# Altium footprint library SignalCommunications.PCBLIB: 466 footprints (part 17 of 30)
Each footprint in its own frame and in the unit in brackets; x right, y up, seen from the top. Pads: shape width x height; smd on the part's side, far side on the other; paste and mask are expansions set on the pad; w line width, h text height; cw(c..) or ccw(c..) is an arc to the next point about the centre after c.
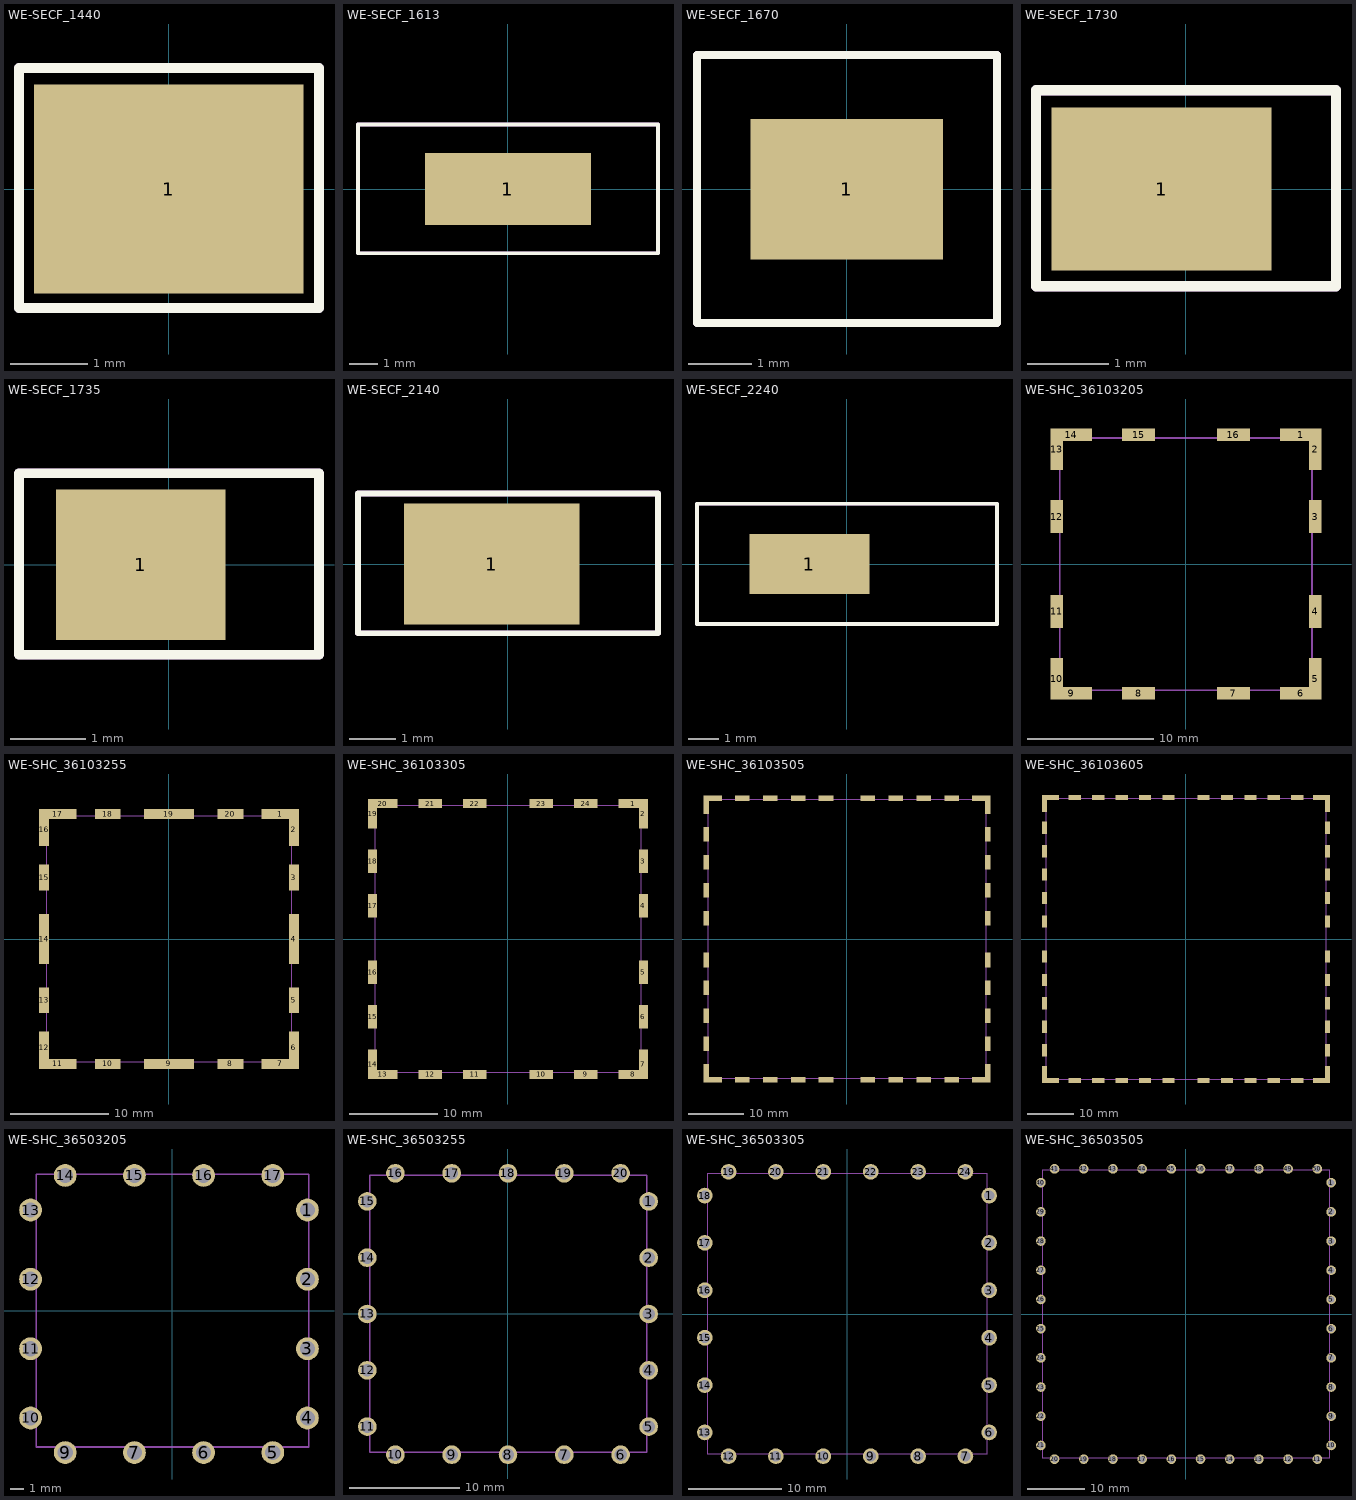
[diagram p16: the footprints below, top view; thin cyan lines are the x and y axes]

## WE-SECF_1440 [mil]
pads (1):
  rect 138x107 smd: 1(0,0)
Top Overlay:
  lines w5: -76.77,-61.02 77,-61.02 77,62 -76.77,62 -76.77,-61.02
Mechanical 16:
  lines w5: -76.77,-61.02 77,-61.02 77,62 -76.77,62 -76.77,-61.02

## WE-SECF_1613 [mil]
pads (1):
  rect 229x99 smd: 1(0,0)
Top Overlay:
  lines w5: -206.69,-88.58 207,-88.58 207,89 -206.69,89 -206.69,-88.58
Mechanical 16:
  lines w5: -206.69,-88.58 207,-88.58 207,89 -206.69,89 -206.69,-88.58

## WE-SECF_1670 [mil]
pads (1):
  rect 119x87 smd: 1(0,0)
Top Overlay:
  lines w5: -92.52,-82.68 93,-82.68 93,83 -92.52,83 -92.52,-82.68
Mechanical 16:
  lines w5: -92.52,-82.68 93,-82.68 93,83 -92.52,83 -92.52,-82.68

## WE-SECF_1730 [mil]
pads (1):
  rect 107x79 smd: 1(-11.81,0)
Top Overlay:
  lines w5: -72.83,-47.24 73,-47.24 73,48 -72.83,48 -72.83,-47.24
Mechanical 16:
  lines w5: -72.83,-47.24 73,-47.24 73,48 -72.83,48 -72.83,-47.24

## WE-SECF_1735 [mil]
pads (1):
  rect 89x79 smd: 1(-14.76,0)
Top Overlay:
  lines w5: -78.74,-47.24 79,-47.24 79,48 -78.74,48 -78.74,-47.24
Mechanical 16:
  lines w5: -78.74,-47.24 79,-47.24 79,48 -78.74,48 -78.74,-47.24

## WE-SECF_2140 [mil]
pads (1):
  rect 150x103 smd: 1(-13.78,0)
Top Overlay:
  lines w5: -127.95,-59.06 128,-59.06 128,60 -127.95,60 -127.95,-59.06
Mechanical 16:
  lines w5: -127.95,-59.06 128,-59.06 128,60 -127.95,60 -127.95,-59.06

## WE-SECF_2240 [mil]
pads (1):
  rect 158x79 smd: 1(-49.21,0)
Top Overlay:
  lines w5: -196.85,-78.74 197,-78.74 197,79 -196.85,79 -196.85,-78.74
Mechanical 16:
  lines w5: -196.85,-78.74 197,-78.74 197,79 -196.85,79 -196.85,-78.74

## WE-SHC_36103205 [mil]
pads (16):
  rect 130x40 smd: 1(359,404) 6(359,-403.54) 9(-358.27,-403.54) 14(-358.27,404)
  rect 40x130 smd: 2(404,359) 5(404,-358.27) 10(-403.54,-358.27) 13(-403.54,359)
  rect 40x103 smd: 3(404,148) 4(404,-147.64) 11(-403.54,-147.64) 12(-403.54,148)
  rect 103x40 smd: 7(148,-403.54) 8(-147.64,-403.54) 15(-147.64,404) 16(148,404)
Mechanical 16:
  lines w5: -393.7,-393.7 -393.7,394 394,394 394,-393.7 -393.7,-393.7

## WE-SHC_36103255 [mil]
pads (20):
  rect 150x40 smd: 1(447,502) 7(447,-501.97) 11(-446.85,-501.97) 17(-446.85,502)
  rect 40x130 smd: 2(502,438) 6(502,-437.01) 12(-501.97,-437.01) 16(-501.97,438)
  rect 40x103 smd: 3(502,247) 5(502,-246.06) 13(-501.97,-246.06) 15(-501.97,247)
  rect 40x201 smd: 4(502,0) 14(-501.97,0)
  rect 103x40 smd: 8(247,-501.97) 10(-246.06,-501.97) 18(-246.06,502) 20(247,502)
  rect 201x40 smd: 9(0,-501.97) 19(0,502)
Mechanical 16:
  lines w5: -492.13,-492.13 -492.13,493 493,493 493,-492.13 -492.13,-492.13

## WE-SHC_36103305 [mil]
pads (24):
  rect 130x40 smd: 1(556,601) 8(556,-600.39) 13(-555.12,-600.39) 20(-555.12,601)
  rect 40x130 smd: 2(601,556) 7(601,-555.12) 14(-600.39,-555.12) 19(-600.39,556)
  rect 40x103 smd: 3(601,345) 4(601,148) 5(601,-147.64) 6(601,-344.49) 15(-600.39,-344.49) 16(-600.39,-147.64) 17(-600.39,148) 18(-600.39,345)
  rect 103x40 smd: 9(345,-600.39) 10(148,-600.39) 11(-147.64,-600.39) 12(-344.49,-600.39) 21(-344.49,601) 22(-147.64,601) 23(148,601) 24(345,601)
Mechanical 16:
  lines w5: -590.55,-590.55 -590.55,591 591,591 591,-590.55 -590.55,-590.55

## WE-SHC_36103505 [mil]
pads (40):
  rect 130x40 smd: 1(949,995) 12(949,-994.09) 21(-948.82,-994.09) 32(-948.82,995)
  rect 40x130 smd: 2(995,949) 11(995,-948.82) 22(-994.09,-948.82) 31(-994.09,949)
  rect 40x103 smd: 3(995,739) 4(995,542) 5(995,345) 6(995,148) 7(995,-147.64) 8(995,-344.49) 9(995,-541.34) 10(995,-738.19) 23(-994.09,-738.19) 24(-994.09,-541.34) 25(-994.09,-344.49) 26(-994.09,-147.64) 27(-994.09,148) 28(-994.09,345) 29(-994.09,542) 30(-994.09,739)
  rect 103x40 smd: 13(739,-994.09) 14(542,-994.09) 15(345,-994.09) 16(148,-994.09) 17(-147.64,-994.09) 18(-344.49,-994.09) 19(-541.34,-994.09) 20(-738.19,-994.09) 33(-738.19,995) 34(-541.34,995) 35(-344.49,995) 36(-147.64,995) 37(148,995) 38(345,995) 39(542,995) 40(739,995)
Mechanical 16:
  lines w5: -984.25,-984.25 -984.25,985 985,985 985,-984.25 -984.25,-984.25

## WE-SHC_36103605 [mil]
pads (48):
  rect 142x40 smd: 1(1140,1191) 14(1140,-1190.94) 25(-1139.76,-1190.94) 38(-1139.76,1191)
  rect 40x142 smd: 2(1191,1140) 13(1191,-1139.76) 26(-1190.94,-1139.76) 37(-1190.94,1140)
  rect 40x103 smd: 3(1191,936) 4(1191,739) 5(1191,542) 6(1191,345) 7(1191,148) 8(1191,-147.64) 9(1191,-344.49) 10(1191,-541.34) 11(1191,-738.19) 12(1191,-935.04) 27(-1190.94,-935.04) 28(-1190.94,-738.19) 29(-1190.94,-541.34) 30(-1190.94,-344.49) 31(-1190.94,-147.64) 32(-1190.94,148) 33(-1190.94,345) 34(-1190.94,542) 35(-1190.94,739) 36(-1190.94,936)
  rect 103x40 smd: 15(936,-1190.94) 16(739,-1190.94) 17(542,-1190.94) 18(345,-1190.94) 19(148,-1190.94) 20(-147.64,-1190.94) 21(-344.49,-1190.94) 22(-541.34,-1190.94) 23(-738.19,-1190.94) 24(-935.04,-1190.94) 39(-935.04,1191) 40(-738.19,1191) 41(-541.34,1191) 42(-344.49,1191) 43(-147.64,1191) 44(148,1191) 45(345,1191) 46(542,1191) 47(739,1191) 49(936,1191)
Mechanical 16:
  lines w5: -1181.1,-1181.1 -1181.1,1182 1182,1182 1182,-1181.1 -1181.1,-1181.1

## WE-SHC_36503205 [mil]
pads (16):
  round 66 hole 44: 1(390,291) 2(390,91) 3(390,-109.99) 4(390,-309.99) 5(290,-409.99) 6(90,-409.99) 7(-110.02,-409.99) 9(-310.02,-409.99) 10(-410.02,-309.99) 11(-410.02,-109.99) 12(-410.02,91) 13(-410.02,291) 14(-310.02,391) 15(-110.02,391) 16(90,391) 17(290,391)
Mechanical 16:
  lines w5: -393.7,-393.7 -393.7,394 394,394 394,-393.7 -393.7,-393.7

## WE-SHC_36503255 [mil]
pads (20):
  round 66 hole 44: 1(500,400) 2(500,200) 3(500,0) 4(500,-200) 5(500,-400) 6(400,-500) 7(200,-500) 8(0,-500) 9(-200,-500) 10(-400,-500) 11(-500,-400) 12(-500,-200) 13(-500,0) 14(-500,200) 15(-500,400) 16(-400,500) 17(-200,500) 18(0,500) 19(200,500) 20(400,500)
Mechanical 16:
  lines w5: -492.13,-492.13 -492.13,493 493,493 493,-492.13 -492.13,-492.13

## WE-SHC_36503305 [mil]
pads (24):
  round 66 hole 44: 1(600,500) 2(600,300) 3(600,100) 4(600,-100) 5(600,-300) 6(600,-500) 7(500,-600) 8(300,-600) 9(100,-600) 10(-100,-600) 11(-300,-600) 12(-500,-600) 13(-600,-500) 14(-600,-300) 15(-600,-100) 16(-600,100) 17(-600,300) 18(-600,500) 19(-500,600) 20(-300,600) 21(-100,600) 22(100,600) 23(300,600) 24(500,600)
Mechanical 16:
  lines w5: -590.55,-590.55 -590.55,591 591,591 591,-590.55 -590.55,-590.55

## WE-SHC_36503505 [mil]
pads (40):
  round 66 hole 44: 1(995,900) 2(995,700) 3(995,500) 4(995,300) 5(995,100) 6(995,-100) 7(995,-300) 8(995,-500) 9(995,-700) 10(995,-900) 11(900,-994.09) 12(700,-994.09) 13(500,-994.09) 14(300,-994.09) 15(100,-994.09) 16(-100,-994.09) 17(-300,-994.09) 18(-500,-994.09) 19(-700,-994.09) 20(-900,-994.09) 21(-994.09,-900) 22(-994.09,-700) 23(-994.09,-500) 24(-994.09,-300) 25(-994.09,-100) 26(-994.09,100) 27(-994.09,300) 28(-994.09,500) 29(-994.09,700) 40(-994.09,900) 41(-900,995) 42(-700,995) 43(-500,995) 44(-300,995) 45(-100,995) 47(300,995) 48(500,995) 49(700,995) 50(900,995) 56(100,995)
Mechanical 16:
  lines w5: -984.25,-984.25 -984.25,985 985,985 985,-984.25 -984.25,-984.25